# Altium integrated library MCP2200.IntLib: 1 symbol
Pins are listed as number, name and electrical type; pins without a type are passive.

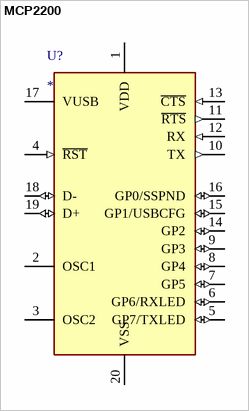
[diagram p0: symbol MCP2200]

## MCP2200
designator U?
datasheet: https://ww1.microchip.com/downloads/en/DeviceDoc/22228A.pdf
footprint MCP2200 (USB 2.0 to UART Protocol Converter with GPIO)
pins: 1 VDD, 2 OSC1, 3 OSC2, 4 ~{RST} (in), 5 GP7/TXLED (io), 6 GP6/RXLED (io), 7 GP5 (io), 8 GP4 (io), 9 GP3 (io), 10 TX (out), 11 ~{RTS} (out), 12 RX (in), 13 ~{CTS} (in), 14 GP2 (io), 15 GP1/USBCFG (io), 16 GP0/SSPND (io), 17 VUSB, 18 D- (io), 19 D+ (io), 20 VSS